# Altium schematic symbol library TPS25200DRVR.Schlib: 1 symbol
Pins are listed as number, name and electrical type; pins without a type are passive.

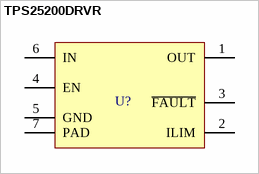
[diagram p0: symbol TPS25200DRVR]

## TPS25200DRVR
designator U?
E-Fuse Hot Swap Voltage Controllers
pins: 1 OUT (power), 2 ILIM, 3 ~{FAULT} (oc), 4 EN, 5 GND (power), 6 IN (power), 7 PAD (power)